# EAGLE library part 93LC66/SN (library Microchip_By_element14_Batch_1)
1K/2K/4K 2.5V Microwire Serial EEPROM
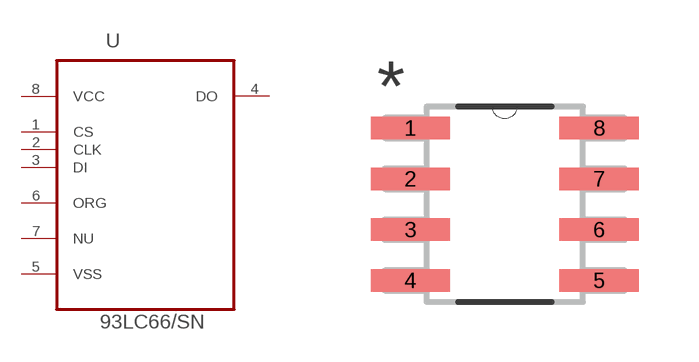
[diagram p248: symbol with the pads of SOIC127P600X175-8N; footprint SOIC127P600X175-8N]

Designator prefix -

## 93LC66/SN (MPN: 93LC66/SN; OC_FARNELL: 1296586; OC_NEWARK: 65K1154; PACKAGE: SOIC-8; SUPPLIER: MICROCHIP)  [SOIC127P600X175-8N]
1  CS  in
2  CLK  in
3  DI  in
4  DO  out
5  VSS  pas
6  ORG  pas
7  NU  nc
8  VCC  pwr

## Footprint SOIC127P600X175-8N (pad centres in mm)
smd 1.981 x 0.559: 1 -2.362,1.905; 2 -2.362,0.635; 3 -2.362,-0.635; 4 -2.362,-1.905; 5 2.362,-1.905; 6 2.362,-0.635; 7 2.362,0.635; 8 2.362,1.905